# EAGLE library part MIC4607-2YML-T5 (library MIC4607-2YML-T5)
85V 3-Phase MOSFET Drivers w/ up to 16V Programmable Gate Drive and OC Protectio, 28 VQFN 5x4x0.9mm T/R Check prices <https://pricing.snapeda.com/search/part/MIC4607-2YML-T5/?ref=eda>
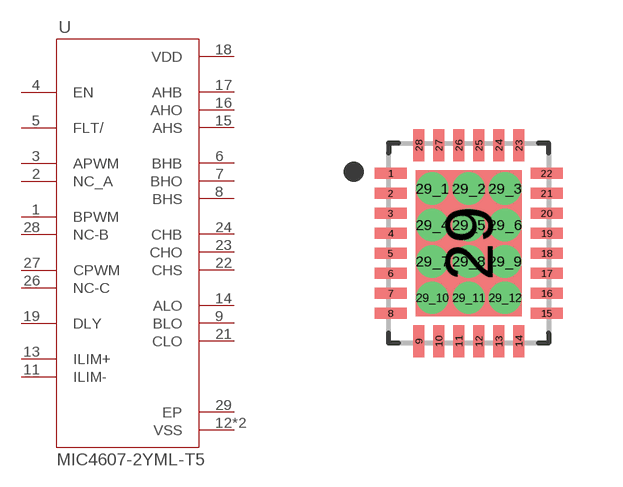
[diagram p0: symbol with the pads of QFN50P500X400X90-29N; footprint QFN50P500X400X90-29N]

Designator prefix U

## MIC4607-2YML-T5 (Availability: Warning; Description: Half-Bridge Gate Driver IC Non-Inverting 28-QFN (4x5); MF: Microchip; MP: MIC4607-2YML-T5; Package: QFN-28 Microchip; Price: None; Purchase-URL: https://pricing.snapeda.com/search/part/MIC4607-2YML-T5/?ref=eda)  [QFN50P500X400X90-29N]
1  BPWM  in
2  NC_A  pas
3  APWM  in
4  EN  in
5  FLT/
6  BHB
7  BHO  out
8  BHS  pas
9  BLO  out
11  ILIM-  in
12  VSS  pwr
13  ILIM+  in
14  ALO  out
15  AHS
16  AHO  out
17  AHB
18  VDD  pwr
19  DLY
20  VSS  pwr
21  CLO  out
22  CHS
23  CHO  out
24  CHB
26  NC-C  pas
27  CPWM  in
28  NC-B  pas
29  EP  pwr

## Footprint QFN50P500X400X90-29N (pad centres in mm)
smd 0.81 x 0.27: 1 -1.95,1.75; 2 -1.95,1.25; 3 -1.95,0.75; 4 -1.95,0.25; 5 -1.95,-0.25; 6 -1.95,-0.75; 7 -1.95,-1.25; 8 -1.95,-1.75; 15 1.95,-1.75; 16 1.95,-1.25; 17 1.95,-0.75; 18 1.95,-0.25; 19 1.95,0.25; 20 1.95,0.75; 21 1.95,1.25; 22 1.95,1.75
smd 0.27 x 0.81: 9 -1.25,-2.45; 10 -0.75,-2.45; 11 -0.25,-2.45; 12 0.25,-2.45; 13 0.75,-2.45; 14 1.25,-2.45; 23 1.25,2.45; 24 0.75,2.45; 25 0.25,2.45; 26 -0.25,2.45; 27 -0.75,2.45; 28 -1.25,2.45
smd 2.65 x 3.65: 29 0,0
drill 0.3 pad 0.5: 29_1 -0.91,1.365; 29_2 0,1.365; 29_3 0.91,1.365; 29_4 -0.91,0.455; 29_5 0,0.455; 29_6 0.91,0.455; 29_7 -0.91,-0.455; 29_8 0,-0.455; 29_9 0.91,-0.455; 29_10 -0.91,-1.365; 29_11 0,-1.365; 29_12 0.91,-1.365